# Altium integrated library IRM-05-5.IntLib: 1 symbol
Pins are listed as number, name and electrical type; pins without a type are passive.

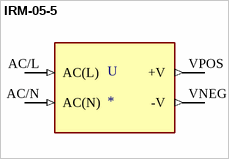
[diagram p0: symbol IRM-05-5]

## IRM-05-5
designator U
Enclosed AC DC Converters 1 Uitgang 5V 1A 85 ~ 305 VAC, 120 ~ 430 VDC Input; MP: IRM-05-5; MF: MEAN WELL; Availability: Unavailable; Package: DIP-4 Mean Well; Value: *; Price: None; SnapEDA_Link: https://www.snapeda.com/parts/IRM-05-5/MEAN%20WELL%20USA%20Inc./view-part/364712/?ref=snap
footprint CONV_IRM-05-5
pins: AC/L AC(L) (in), AC/N AC(N) (in), VNEG -V (out), VPOS +V (out)